# Altium footprint library SMD-4.PcbLib: 1 footprints
Each footprint in its own frame and in the unit in brackets; x right, y up, seen from the top. Pads: shape width x height; smd on the part's side, far side on the other; paste and mask are expansions set on the pad; w line width, h text height; cw(c..) or ccw(c..) is an arc to the next point about the centre after c.
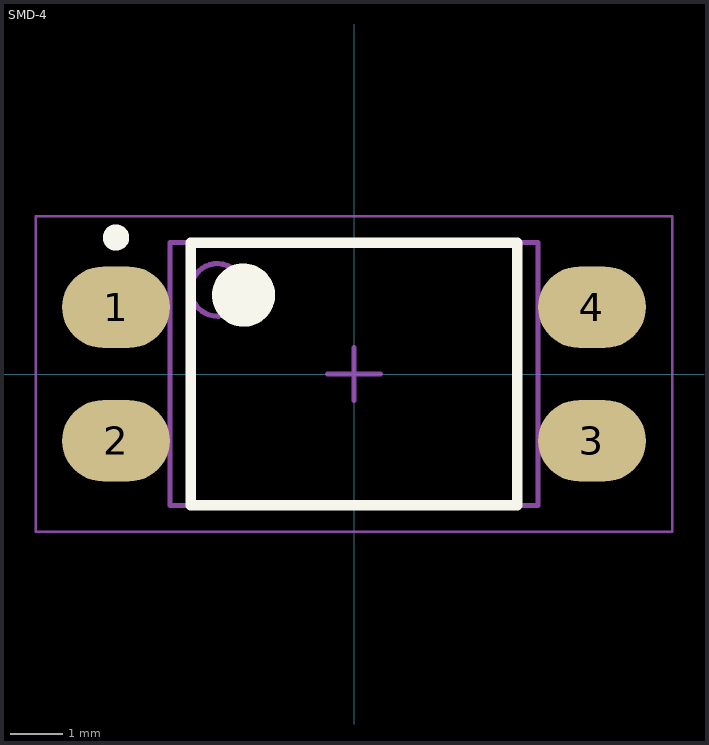
[diagram p0: the footprint, top view; thin cyan lines are the x and y axes]

## SMD-4 [mm] "SOP, 4-Leads, Body 4.60x6.50mm, Pitch 2.54mm, IPC Low Density"
height 4
pads (4):
  oval 2.05x1.55 smd: 1(-4.525,1.27) 2(-4.525,-1.27) 3(4.525,-1.27) 4(4.525,1.27)
Top Overlay:
  circle w0.25: c-4.525,2.595 r0.125
  circle w0.6: c-2.1,1.5 r0.3
  lines w0.2: -3.1,-2.5 -3.1,2.5 3.1,2.5 3.1,-2.5 -3.1,-2.5
Mechanical 13:
  circle w0.1: c-2.6,1.6 r0.5
  lines w0.1: -3.5,-2.5 -3.5,2.5 3.5,2.5 3.5,-2.5 -3.5,-2.5
Mechanical 15:
  lines w0.05: -6.05,-3 -6.05,3 6.05,3 6.05,-3 -6.05,-3
  lines w0.1: -0.5,0 0.5,0 ; 0,-0.5 0,0.5
3D body "SMD-4.step": height 4, standoff 0, extent -4.8,-2.5 4.8,2.5